# Altium schematic symbol library TPS7A02.SchLib: 1 symbol
Pins are listed as number, name and electrical type; pins without a type are passive.

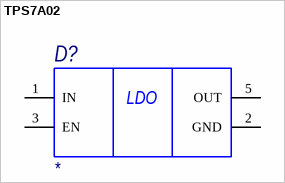
[diagram p0: symbol TPS7A02]

## TPS7A02
designator D?
Value: *
pins: 1 IN, 2 GND, 3 EN, 5 OUT
text: LDO